# Altium footprint library 5013310907.PcbLib: 1 footprints
Each footprint in its own frame and in the unit in brackets; x right, y up, seen from the top. Pads: shape width x height; smd on the part's side, far side on the other; paste and mask are expansions set on the pad; w line width, h text height; cw(c..) or ccw(c..) is an arc to the next point about the centre after c.
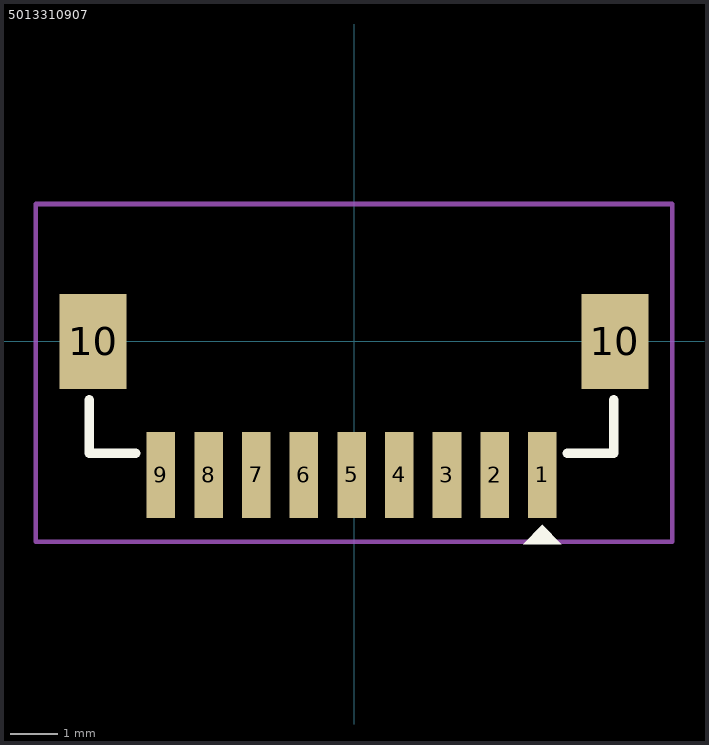
[diagram p0: the footprint, top view; thin cyan lines are the x and y axes]

## 5013310907 [mm]
pads (11):
  rect 0.6x1.8 smd: 1(3.95,-2.8) 2(2.95,-2.8) 3(1.95,-2.8) 4(0.95,-2.8) 5(-0.05,-2.8) 6(-1.05,-2.8) 7(-2.05,-2.8) 8(-3.05,-2.8) 9(-4.05,-2.8)
  rect 1.4x2 smd: 10(-5.475,0) 10(5.475,0)
Top Overlay:
  region: 4.35,-4.25 3.55,-4.25 3.95,-3.85
  lines w0.2: -5.55,-1.225 -5.55,-2.35 -4.575,-2.35 ; 4.475,-2.35 5.45,-2.35 5.45,-1.225
Top Courtyard:
  lines w0.1: -6.675,-1 -6.675,-4.2 ; -6.675,-4.2 6.675,-4.2 6.675,2.884 -6.675,2.884 -6.675,-4.2
3D body "2035560907.stp": height 5.51, standoff -0.03, extent -5.67,-2.95 5.57,2.385